# EAGLE library part 1X12 (library PiB_connectors)
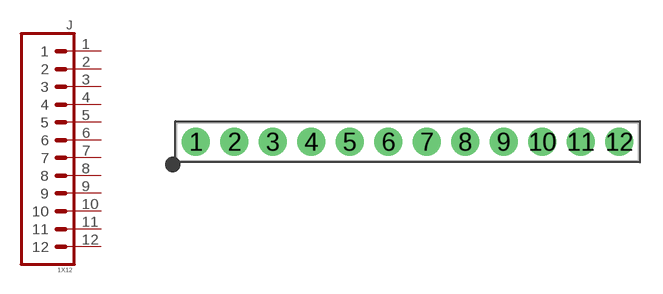
[diagram p21: symbol with the pads of HDRV12W64P254_1X12_3048X254X838B; footprint HDRV12W64P254_1X12_3048X254X838B]

Designator prefix J

## 1X12_PTH_VERT_MALE_2.54MM (DATASHEET: https://s3.amazonaws.com/catalogspreads-pdf/PAGE112-113%20.100%20MALE%20HDR.pdf; DIST: Digikey; DISTLINK: https://www.digikey.com/products/en?keywords=PEC12SAAN; DISTPN: S1012E-12-ND; MFR: Sullins Connector Solutions; MPN: PEC12SAAN; VALUE: PTH VERT MALE)  [HDRV12W64P254_1X12_3048X254X838B]
1  1  pas
2  2  pas
3  3  pas
4  4  pas
5  5  pas
6  6  pas
7  7  pas
8  8  pas
9  9  pas
10  10  pas
11  11  pas
12  12  pas

## Footprint HDRV12W64P254_1X12_3048X254X838B (pad centres in mm)
Single-row, 12-pin Pin Header (Male) Straight, 2.54 mm (0.10 in) col pitch, 5.84 mm mating length, 30.48 X 2.54 X 8.38 mm body Single-row (1X12), 12-pin Pin Header (Male) Straight package with 2.54 mm (0.10 in) col pitch, 0.64 mm lead width, 3.05 mm tail length and 5.84 mm mating length with overall size 30.48 X 2.54 X 8.38 mm, pin pattern - zigzag from bottom left
drill 1 pad 1.85: 1 -13.97,0; 2 -11.43,0; 3 -8.89,0; 4 -6.35,0; 5 -3.81,0; 6 -1.27,0; 7 1.27,0; 8 3.81,0; 9 6.35,0; 10 8.89,0; 11 11.43,0; 12 13.97,0